# Altium schematic symbol library 10TPB220ML.SchLib: 1 symbol
Pins are listed as number, name and electrical type; pins without a type are passive.

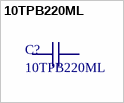
[diagram p0: symbol 10TPB220ML]

## 10TPB220ML
designator C?
footprint CAPMP7342X30N (Molded Capacitor, 2-Leads, Body 7,30x4,25mm, IPC Medium Density)
pins: 1, 2